# Altium footprint library RHD2000.PCBLIB: 12 footprints
Each footprint in its own frame and in the unit in brackets; x right, y up, seen from the top. Pads: shape width x height; smd on the part's side, far side on the other; paste and mask are expansions set on the pad; w line width, h text height; cw(c..) or ccw(c..) is an arc to the next point about the centre after c.
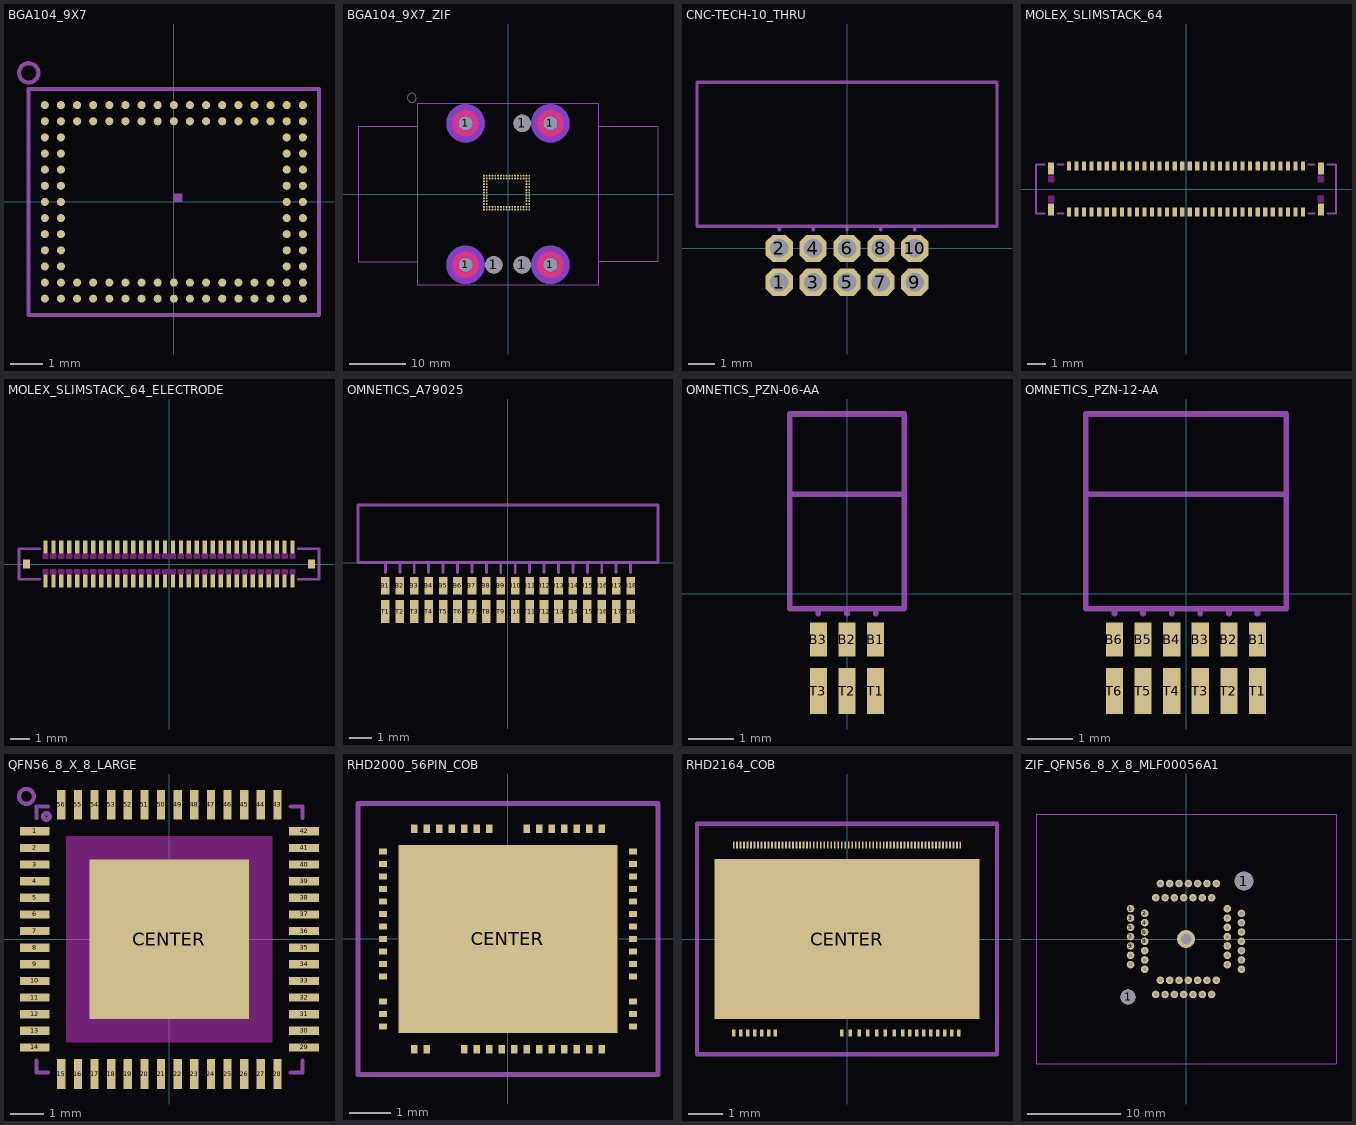
[diagram p0: the footprints below, top view; thin cyan lines are the x and y axes]

## BGA104_9X7 [mm]
pads (104):
  rrect100% 0.25x0.25 smd: A1(-4,3) A2(-3.5,3) A3(-3,3) A4(-2.5,3) A5(-2,3) A6(-1.5,3) A7(-1,3) A8(-0.5,3) A9(0,3) A10(0.5,3) A11(1,3) A12(1.5,3) A13(2,3) A14(2.5,3) A15(3,3) A16(3.5,3) A17(4,3) B1(-4,2.5) B2(-3.5,2.5) B3(-3,2.5) B4(-2.5,2.5) B5(-2,2.5) B6(-1.5,2.5) B7(-1,2.5) B8(-0.5,2.5) B9(0,2.5) B10(0.5,2.5) B11(1,2.5) B12(1.5,2.5) B13(2,2.5) B14(2.5,2.5) B15(3,2.5) B16(3.5,2.5) B17(4,2.5) C1(-4,2) C2(-3.5,2) C16(3.5,2) C17(4,2) D1(-4,1.5) D2(-3.5,1.5) D16(3.5,1.5) D17(4,1.5) E1(-4,1) E2(-3.5,1) E16(3.5,1) E17(4,1) F1(-4,0.5) F2(-3.5,0.5) F16(3.5,0.5) F17(4,0.5) G1(-4,0) G2(-3.5,0) G16(3.5,0) G17(4,0) H1(-4,-0.5) H2(-3.5,-0.5) H16(3.5,-0.5) H17(4,-0.5) J1(-4,-1) J2(-3.5,-1) J16(3.5,-1) J17(4,-1) K1(-4,-1.5) K2(-3.5,-1.5) K16(3.5,-1.5) K17(4,-1.5) L1(-4,-2) L2(-3.5,-2) L16(3.5,-2) L17(4,-2) M1(-4,-2.5) M2(-3.5,-2.5) M3(-3,-2.5) M4(-2.5,-2.5) M5(-2,-2.5) M6(-1.5,-2.5) M7(-1,-2.5) M8(-0.5,-2.5) M9(0,-2.5) M10(0.5,-2.5) M11(1,-2.5) M12(1.5,-2.5) M13(2,-2.5) M14(2.5,-2.5) M15(3,-2.5) M16(3.5,-2.5) M17(4,-2.5) N1(-4,-3) N2(-3.5,-3) N3(-3,-3) N4(-2.5,-3) N5(-2,-3) N6(-1.5,-3) N7(-1,-3) N8(-0.5,-3) N9(0,-3) N10(0.5,-3) N11(1,-3) N12(1.5,-3) N13(2,-3) N14(2.5,-3) N15(3,-3) N16(3.5,-3) N17(4,-3)
Mechanical 22:
  circle w0.127: c-4.5,4 r0.3
  region: 0,0 0.254,0 0.254,0.254 0,0.254
  lines w0.127: -4.5,-3.5 4.5,-3.5 4.5,3.5 -4.5,3.5 -4.5,-3.5

## BGA104_9X7_ZIF [mil]
pads (111):
  round 93.74 hole 93.74 unplated: 1(-295.28,-492.13) 1(-295.28,492.13) 1(295.28,-492.13) 1(295.28,492.13)
  round 120 hole 120 unplated: 1(-98.43,-492.13) 1(98.43,-492.13) 1(98.43,492.13)
  rrect100% 13.39x13.39 smd: A1(-167.32,127.95) A2(-147.64,127.95) A3(-127.95,127.95) A4(-108.27,127.95) A5(-88.58,127.95) A6(-68.9,127.95) A7(-49.21,127.95) A8(-29.53,127.95) A9(-9.84,127.95) A10(9.84,127.95) A11(29.53,127.95) A12(49.21,127.95) A13(68.9,127.95) A14(88.58,127.95) A15(108.27,127.95) A16(127.95,127.95) A17(147.64,127.95) B1(-167.32,108.27) B2(-147.64,108.27) B3(-127.95,108.27) B4(-108.27,108.27) B5(-88.58,108.27) B6(-68.9,108.27) B7(-49.21,108.27) B8(-29.53,108.27) B9(-9.84,108.27) B10(9.84,108.27) B11(29.53,108.27) B12(49.21,108.27) B13(68.9,108.27) B14(88.58,108.27) B15(108.27,108.27) B16(127.95,108.27) B17(147.64,108.27) C1(-167.32,88.58) C2(-147.64,88.58) C16(127.95,88.58) C17(147.64,88.58) D1(-167.32,68.9) D2(-147.64,68.9) D16(127.95,68.9) D17(147.64,68.9) E1(-167.32,49.21) E2(-147.64,49.21) E16(127.95,49.21) E17(147.64,49.21) F1(-167.32,29.53) F2(-147.64,29.53) F16(127.95,29.53) F17(147.64,29.53) G1(-167.32,9.84) G2(-147.64,9.84) G16(127.95,9.84) G17(147.64,9.84) H1(-167.32,-9.84) H2(-147.64,-9.84) H16(127.95,-9.84) H17(147.64,-9.84) J1(-167.32,-29.53) J2(-147.64,-29.53) J16(127.95,-29.53) J17(147.64,-29.53) K1(-167.32,-49.21) K2(-147.64,-49.21) K16(127.95,-49.21) K17(147.64,-49.21) L1(-167.32,-68.9) L2(-147.64,-68.9) L16(127.95,-68.9) L17(147.64,-68.9) M1(-167.32,-88.58) M2(-147.64,-88.58) M3(-127.95,-88.58) M4(-108.27,-88.58) M5(-88.58,-88.58) M6(-68.9,-88.58) M7(-49.21,-88.58) M8(-29.53,-88.58) M9(-9.84,-88.58) M10(9.84,-88.58) M11(29.53,-88.58) M12(49.21,-88.58) M13(68.9,-88.58) M14(88.58,-88.58) M15(108.27,-88.58) M16(127.95,-88.58) M17(147.64,-88.58) N1(-167.32,-108.27) N2(-147.64,-108.27) N3(-127.95,-108.27) N4(-108.27,-108.27) N5(-88.58,-108.27) N6(-68.9,-108.27) N7(-49.21,-108.27) N8(-29.53,-108.27) N9(-9.84,-108.27) N10(9.84,-108.27) N11(29.53,-108.27) N12(49.21,-108.27) N13(68.9,-108.27) N14(88.58,-108.27) N15(108.27,-108.27) N16(127.95,-108.27) N17(147.64,-108.27)
Top Layer:
  circle w39.37: c295.28,492.13 r72.64
  circle w39.37: c-295.28,492.13 r72.64
  circle w39.37: c295.28,-492.13 r72.64
  circle w39.37: c-295.28,-492.13 r72.64
Top Layer keep-out:
  circle w94.49: c295.28,492.13 r86.61
  circle w94.49: c-295.28,492.13 r86.61
  circle w94.49: c295.28,-492.13 r86.61
  circle w94.49: c-295.28,-492.13 r86.61
Bottom Layer keep-out:
  circle w94.49: c295.28,492.13 r86.61
  circle w94.49: c-295.28,492.13 r86.61
  circle w94.49: c295.28,-492.13 r86.61
  circle w94.49: c-295.28,-492.13 r86.61
Top Solder:
  region: 0,0 10,0 10,10 0,10
Mechanical 22:
  circle w5: c-669.29,669.29 r31.12
  lines w5: -629.92,-472.44 -629.92,472.44 ; -629.92,-472.44 -629.92,-629.92 629.92,-629.92 629.92,-472.44 ; -629.92,-472.44 -1043.31,-472.44 -1043.31,472.44 -629.92,472.44 ; -629.92,472.44 -629.92,629.92 629.92,629.92 629.92,472.44 ; 629.92,-472.44 1043.31,-472.44 1043.31,472.44 629.92,472.44 ; 629.92,-472.44 629.92,472.44

## CNC-TECH-10_THRU [mil]
pads (10):
  oct 40.03x40.03 / inner oct 60x60 / far side oct 40.03x40.03 hole 27.56: 1(-100,-50) 2(-100,0) 3(-50,-50) 4(-50,0) 5(0,-50) 6(0,0) 7(50,-50) 8(50,0) 9(100,-50) 10(100,0)
Mechanical 22:
  lines w5: -100,27.56 -100,32.68 ; -50,27.56 -50,32.68 ; 0,27.56 0,32.68 ; 50,27.56 50,32.68 ; 100,27.56 100,32.68 ; -100,32.68 -221.46,32.68 -221.46,245.28 221.46,245.28 221.46,32.68 100,32.68 ; -100,32.68 -50,32.68 ; -50,32.68 0,32.68 ; 0,32.68 50,32.68 ; 50,32.68 100,32.68

## MOLEX_SLIMSTACK_64 [mm]
pads (68):
  rect 0.22x0.475 smd: 1(-6.2,-1.213) 2(-5.8,-1.213) 3(-5.4,-1.213) 4(-5,-1.213) 5(-4.6,-1.213) 6(-4.2,-1.213) 7(-3.8,-1.213) 8(-3.4,-1.213) 9(-3,-1.213) 10(-2.6,-1.213) 11(-2.2,-1.213) 12(-1.8,-1.213) 13(-1.4,-1.213) 14(-1,-1.213) 15(-0.6,-1.213) 16(-0.2,-1.213) 17(0.2,-1.213) 18(0.6,-1.213) 19(1,-1.213) 20(1.4,-1.213) 21(1.8,-1.213) 22(2.2,-1.213) 23(2.6,-1.213) 24(3,-1.213) 25(3.4,-1.213) 26(3.8,-1.213) 27(4.2,-1.213) 28(4.6,-1.213) 29(5,-1.213) 30(5.4,-1.213) 31(5.8,-1.213) 32(6.2,-1.213) 33(6.2,1.213) 34(5.8,1.213) 35(5.4,1.213) 36(5,1.213) 37(4.6,1.213) 38(4.2,1.213) 39(3.8,1.213) 40(3.4,1.213) 41(3,1.213) 42(2.6,1.213) 43(2.2,1.213) 44(1.8,1.213) 45(1.4,1.213) 46(1,1.213) 47(0.6,1.213) 48(0.2,1.213) 49(-0.2,1.213) 50(-0.6,1.213) 51(-1,1.213) 52(-1.4,1.213) 53(-1.8,1.213) 54(-2.2,1.213) 55(-2.6,1.213) 56(-3,1.213) 57(-3.4,1.213) 58(-3.8,1.213) 59(-4.2,1.213) 60(-4.6,1.213) 61(-5,1.213) 62(-5.4,1.213) 63(-5.8,1.213) 64(-6.2,1.213)
  rect 0.32x0.65 smd: MECH1(-7.15,1.085) MECH2(-7.15,-1.085) MECH3(7.15,1.085) MECH4(7.15,-1.085)
Top Layer keep-out:
  region: -7.31,0.35 -7.31,0.7 -6.99,0.7 -6.99,0.35
  region: -7.31,-0.7 -7.31,-0.35 -6.99,-0.35 -6.99,-0.7
  region: 6.99,0.35 6.99,0.7 7.31,0.7 7.31,0.35
  region: 6.99,-0.7 6.99,-0.35 7.31,-0.35 7.31,-0.7
Mechanical 22:
  lines w0.127: -7.5,-1.3 -7.95,-1.3 -7.95,1.3 -7.5,1.3 ; -6.8,-1.3 -6.5,-1.3 ; -6.8,1.3 -6.5,1.3 ; 6.5,-1.3 6.8,-1.3 ; 6.5,1.3 6.8,1.3 ; 7.5,-1.3 7.95,-1.3 7.95,1.3 7.5,1.3

## MOLEX_SLIMSTACK_64_ELECTRODE [mm]
pads (66):
  rect 0.22x0.66 smd: 1(-6.2,0.855) 2(-5.8,0.855) 3(-5.4,0.855) 4(-5,0.855) 5(-4.6,0.855) 6(-4.2,0.855) 7(-3.8,0.855) 8(-3.4,0.855) 9(-3,0.855) 10(-2.6,0.855) 11(-2.2,0.855) 12(-1.8,0.855) 13(-1.4,0.855) 14(-1,0.855) 15(-0.6,0.855) 16(-0.2,0.855) 17(0.2,0.855) 18(0.6,0.855) 19(1,0.855) 20(1.4,0.855) 21(1.8,0.855) 22(2.2,0.855) 23(2.6,0.855) 24(3,0.855) 25(3.4,0.855) 26(3.8,0.855) 27(4.2,0.855) 28(4.6,0.855) 29(5,0.855) 30(5.4,0.855) 31(5.8,0.855) 32(6.2,0.855) 33(6.2,-0.855) 34(5.8,-0.855) 35(5.4,-0.855) 36(5,-0.855) 37(4.6,-0.855) 38(4.2,-0.855) 39(3.8,-0.855) 40(3.4,-0.855) 41(3,-0.855) 42(2.6,-0.855) 43(2.2,-0.855) 44(1.8,-0.855) 45(1.4,-0.855) 46(1,-0.855) 47(0.6,-0.855) 48(0.2,-0.855) 49(-0.2,-0.855) 50(-0.6,-0.855) 51(-1,-0.855) 52(-1.4,-0.855) 53(-1.8,-0.855) 54(-2.2,-0.855) 55(-2.6,-0.855) 56(-3,-0.855) 57(-3.4,-0.855) 58(-3.8,-0.855) 59(-4.2,-0.855) 60(-4.6,-0.855) 61(-5,-0.855) 62(-5.4,-0.855) 63(-5.8,-0.855) 64(-6.2,-0.855)
  rect 0.35x0.44 smd: MECH1(-7.15,0) MECH2(7.15,0)
Top Layer keep-out:
  region: -6.35,0.255 -6.35,0.525 -6.05,0.525 -6.05,0.255
  region: -5.95,0.255 -5.95,0.525 -5.65,0.525 -5.65,0.255
  region: -5.55,0.255 -5.55,0.525 -5.25,0.525 -5.25,0.255
  region: -5.15,0.255 -5.15,0.525 -4.85,0.525 -4.85,0.255
  region: -4.75,0.255 -4.75,0.525 -4.45,0.525 -4.45,0.255
  region: -4.35,0.255 -4.35,0.525 -4.05,0.525 -4.05,0.255
  region: -3.95,0.255 -3.95,0.525 -3.65,0.525 -3.65,0.255
  region: -3.55,0.255 -3.55,0.525 -3.25,0.525 -3.25,0.255
  region: -3.15,0.255 -3.15,0.525 -2.85,0.525 -2.85,0.255
  region: -2.75,0.255 -2.75,0.525 -2.45,0.525 -2.45,0.255
  region: -2.35,0.255 -2.35,0.525 -2.05,0.525 -2.05,0.255
  region: -1.95,0.255 -1.95,0.525 -1.65,0.525 -1.65,0.255
  region: -1.55,0.255 -1.55,0.525 -1.25,0.525 -1.25,0.255
  region: -1.15,0.255 -1.15,0.525 -0.85,0.525 -0.85,0.255
  region: -0.75,0.255 -0.75,0.525 -0.45,0.525 -0.45,0.255
  region: -0.35,0.255 -0.35,0.525 -0.05,0.525 -0.05,0.255
  region: 0.05,0.255 0.05,0.525 0.35,0.525 0.35,0.255
  region: 0.45,0.255 0.45,0.525 0.75,0.525 0.75,0.255
  region: 0.85,0.255 0.85,0.525 1.15,0.525 1.15,0.255
  region: 1.25,0.255 1.25,0.525 1.55,0.525 1.55,0.255
  region: 1.65,0.255 1.65,0.525 1.95,0.525 1.95,0.255
  region: 2.05,0.255 2.05,0.525 2.35,0.525 2.35,0.255
  region: 2.45,0.255 2.45,0.525 2.75,0.525 2.75,0.255
  region: 2.85,0.255 2.85,0.525 3.15,0.525 3.15,0.255
  region: 3.25,0.255 3.25,0.525 3.55,0.525 3.55,0.255
  region: 3.65,0.255 3.65,0.525 3.95,0.525 3.95,0.255
  region: 4.05,0.255 4.05,0.525 4.35,0.525 4.35,0.255
  region: 4.45,0.255 4.45,0.525 4.75,0.525 4.75,0.255
  region: 4.85,0.255 4.85,0.525 5.15,0.525 5.15,0.255
  region: 5.25,0.255 5.25,0.525 5.55,0.525 5.55,0.255
  region: 5.65,0.255 5.65,0.525 5.95,0.525 5.95,0.255
  region: 6.05,0.255 6.05,0.525 6.35,0.525 6.35,0.255
  region: 6.05,-0.525 6.05,-0.255 6.35,-0.255 6.35,-0.525
  region: 5.65,-0.525 5.65,-0.255 5.95,-0.255 5.95,-0.525
  region: 5.25,-0.525 5.25,-0.255 5.55,-0.255 5.55,-0.525
  region: 4.85,-0.525 4.85,-0.255 5.15,-0.255 5.15,-0.525
  region: 4.45,-0.525 4.45,-0.255 4.75,-0.255 4.75,-0.525
  region: 4.05,-0.525 4.05,-0.255 4.35,-0.255 4.35,-0.525
  region: 3.65,-0.525 3.65,-0.255 3.95,-0.255 3.95,-0.525
  region: 3.25,-0.525 3.25,-0.255 3.55,-0.255 3.55,-0.525
  region: 2.85,-0.525 2.85,-0.255 3.15,-0.255 3.15,-0.525
  region: 2.45,-0.525 2.45,-0.255 2.75,-0.255 2.75,-0.525
  region: 2.05,-0.525 2.05,-0.255 2.35,-0.255 2.35,-0.525
  region: 1.65,-0.525 1.65,-0.255 1.95,-0.255 1.95,-0.525
  region: 1.25,-0.525 1.25,-0.255 1.55,-0.255 1.55,-0.525
  region: 0.85,-0.525 0.85,-0.255 1.15,-0.255 1.15,-0.525
  region: 0.45,-0.525 0.45,-0.255 0.75,-0.255 0.75,-0.525
  region: 0.05,-0.525 0.05,-0.255 0.35,-0.255 0.35,-0.525
  region: -0.35,-0.525 -0.35,-0.255 -0.05,-0.255 -0.05,-0.525
  region: -0.75,-0.525 -0.75,-0.255 -0.45,-0.255 -0.45,-0.525
  region: -1.15,-0.525 -1.15,-0.255 -0.85,-0.255 -0.85,-0.525
  region: -1.55,-0.525 -1.55,-0.255 -1.25,-0.255 -1.25,-0.525
  region: -1.95,-0.525 -1.95,-0.255 -1.65,-0.255 -1.65,-0.525
  region: -2.35,-0.525 -2.35,-0.255 -2.05,-0.255 -2.05,-0.525
  region: -2.75,-0.525 -2.75,-0.255 -2.45,-0.255 -2.45,-0.525
  region: -3.15,-0.525 -3.15,-0.255 -2.85,-0.255 -2.85,-0.525
  region: -3.55,-0.525 -3.55,-0.255 -3.25,-0.255 -3.25,-0.525
  region: -3.95,-0.525 -3.95,-0.255 -3.65,-0.255 -3.65,-0.525
  region: -4.35,-0.525 -4.35,-0.255 -4.05,-0.255 -4.05,-0.525
  region: -4.75,-0.525 -4.75,-0.255 -4.45,-0.255 -4.45,-0.525
  region: -5.15,-0.525 -5.15,-0.255 -4.85,-0.255 -4.85,-0.525
  region: -5.55,-0.525 -5.55,-0.255 -5.25,-0.255 -5.25,-0.525
  region: -5.95,-0.525 -5.95,-0.255 -5.65,-0.255 -5.65,-0.525
  region: -6.35,-0.525 -6.35,-0.255 -6.05,-0.255 -6.05,-0.525
Mechanical 22:
  lines w0.127: -6.5,-0.77 -7.53,-0.77 -7.53,0.77 -6.5,0.77 ; 6.5,-0.77 7.53,-0.77 7.53,0.77 6.5,0.77

## OMNETICS_A79025 [mil]
pads (36):
  rect 15x30 smd: B1(-212.5,-40) B2(-187.5,-40) B3(-162.5,-40) B4(-137.5,-40) B5(-112.5,-40) B6(-87.5,-40) B7(-62.5,-40) B8(-37.5,-40) B9(-12.5,-40) B10(12.5,-40) B11(37.5,-40) B12(62.5,-40) B13(87.5,-40) B14(112.5,-40) B15(137.5,-40) B16(162.5,-40) B17(187.5,-40) B18(212.5,-40)
  rect 15x40 smd: T1(-212.5,-85) T2(-187.5,-85) T3(-162.5,-85) T4(-137.5,-85) T5(-112.5,-85) T6(-87.5,-85) T7(-62.5,-85) T8(-37.5,-85) T9(-12.5,-85) T10(12.5,-85) T11(37.5,-85) T12(62.5,-85) T13(87.5,-85) T14(112.5,-85) T15(137.5,-85) T16(162.5,-85) T17(187.5,-85) T18(212.5,-85)
Mechanical 22:
  lines w5: -212.5,-17.5 -212.5,0 ; -187.5,-17.5 -187.5,0 ; -162.5,-17.5 -162.5,0 ; -137.5,-17.5 -137.5,0 ; -112.5,-17.5 -112.5,0 ; -87.5,-17.5 -87.5,0 ; -62.5,-17.5 -62.5,0 ; -37.5,-17.5 -37.5,0 ; -12.5,-17.5 -12.5,0 ; 12.5,-17.5 12.5,0 ; 37.5,-17.5 37.5,0 ; 62.5,-17.5 62.5,0 ; 87.5,-17.5 87.5,0 ; 112.5,-17.5 112.5,0 ; 137.5,-17.5 137.5,0 ; 162.5,-17.5 162.5,0 ; 187.5,-17.5 187.5,0 ; 212.5,-17.5 212.5,0 ; -212.5,0 -187.5,0 ; -212.5,0 -260,0 -260,100 260,100 260,0 12.5,0 ; -187.5,0 -162.5,0 ; -162.5,0 -137.5,0 ; -137.5,0 -112.5,0 ; -112.5,0 -87.5,0 ; -87.5,0 -62.5,0 ; -62.5,0 -37.5,0 ; -37.5,0 -12.5,0 ; -12.5,0 12.5,0

## OMNETICS_PZN-06-AA [mil]
pads (6):
  rect 15x30 smd: B1(25,-40) B2(0,-40) B3(-25,-40)
  rect 15x40 smd: T1(25,-85) T2(0,-85) T3(-25,-85)
Mechanical 22:
  lines w5: -25,-17.5 -25,-13 ; 0,-17.5 0,-13 ; 25,-17.5 25,-13 ; -50,87 -50,-13 -25,-13 ; -50,87 -50,157 50,157 50,87 ; -50,87 50,87 ; -25,-13 0,-13 ; 0,-13 25,-13 ; 25,-13 50,-13 50,87

## OMNETICS_PZN-12-AA [mil]
pads (12):
  rect 15x30 smd: B1(62.5,-40) B2(37.5,-40) B3(12.5,-40) B4(-12.5,-40) B5(-37.5,-40) B6(-62.5,-40)
  rect 15x40 smd: T1(62.5,-85) T2(37.5,-85) T3(12.5,-85) T4(-12.5,-85) T5(-37.5,-85) T6(-62.5,-85)
Mechanical 22:
  lines w5: -62.5,-17.5 -62.5,-13 ; -37.5,-17.5 -37.5,-13 ; -12.5,-17.5 -12.5,-13 ; 12.5,-17.5 12.5,-13 ; 37.5,-17.5 37.5,-13 ; 62.5,-17.5 62.5,-13 ; -87.5,87 -87.5,-13 -62.5,-13 ; -87.5,87 -87.5,157 87.5,157 87.5,87 ; -87.5,87 87.5,87 ; -62.5,-13 -37.5,-13 ; -37.5,-13 -12.5,-13 ; -12.5,-13 12.5,-13 ; 12.5,-13 37.5,-13 ; 37.5,-13 62.5,-13 ; 62.5,-13 87.5,-13 87.5,87

## QFN56_8_X_8_LARGE [mil]
pads (57):
  rect 35.43x9.84 smd: 1(-159.45,127.95) 2(-159.45,108.27) 3(-159.45,88.58) 4(-159.45,68.9) 5(-159.45,49.21) 6(-159.45,29.53) 7(-159.45,9.84) 8(-159.45,-9.84) 9(-159.45,-29.53) 10(-159.45,-49.21) 11(-159.45,-68.9) 12(-159.45,-88.58) 13(-159.45,-108.27) 14(-159.45,-127.95) 29(159.45,-127.95) 30(159.45,-108.27) 31(159.45,-88.58) 32(159.45,-68.9) 33(159.45,-49.21) 34(159.45,-29.53) 35(159.45,-9.84) 36(159.45,9.84) 37(159.45,29.53) 38(159.45,49.21) 39(159.45,68.9) 40(159.45,88.58) 41(159.45,108.27) 42(159.45,127.95)
  rect 9.84x35.43 smd: 15(-127.95,-159.45) 16(-108.27,-159.45) 17(-88.58,-159.45) 18(-68.9,-159.45) 19(-49.21,-159.45) 20(-29.53,-159.45) 21(-9.84,-159.45) 22(9.84,-159.45) 23(29.53,-159.45) 24(49.21,-159.45) 25(68.9,-159.45) 26(88.58,-159.45) 27(108.27,-159.45) 28(127.95,-159.45) 43(127.95,159.45) 44(108.27,159.45) 45(88.58,159.45) 46(68.9,159.45) 47(49.21,159.45) 48(29.53,159.45) 49(9.84,159.45) 50(-9.84,159.45) 51(-29.53,159.45) 52(-49.21,159.45) 53(-68.9,159.45) 54(-88.58,159.45) 55(-108.27,159.45) 56(-127.95,159.45)
  rect 188.98x188.98 smd: CENTER(0,0)
Top Layer keep-out:
  region: -122.05,-122.05 -122.05,122.05 122.05,122.05 122.05,-122.05
Mechanical 22:
  circle w5: c-145.67,145.67 r3.94
  circle w5: c-169.29,169.29 r8.8
  lines w5: -157.48,-143.7 -157.48,-157.48 -143.7,-157.48 ; -157.48,143.7 -157.48,157.48 -143.7,157.48 ; 143.7,-157.48 157.48,-157.48 157.48,-143.7 ; 143.7,157.48 157.48,157.48 157.48,143.7

## RHD2000_56PIN_COB [mil]
pads (57):
  rect 8x6 smd paste+0: 1(-120,84) 2(-120,72) 3(-120,60) 4(-120,48) 5(-120,36) 6(-120,24) 7(-120,12) 8(-120,0) 9(-120,-12) 10(-120,-24) 11(-120,-36) 12(-120,-60) 13(-120,-72) 14(-120,-84) 29(120,-84) 30(120,-72) 31(120,-60) 32(120,-36) 33(120,-24) 34(120,-12) 35(120,0) 36(120,12) 37(120,24) 38(120,36) 39(120,48) 40(120,60) 41(120,72) 42(120,84)
  rect 6x8 smd paste+0: 15(-90,-106) 16(-78,-106) 17(-42,-106) 18(-30,-106) 19(-18,-106) 20(-6,-106) 21(6,-106) 22(18,-106) 23(30,-106) 24(42,-106) 25(54,-106) 26(66,-106) 27(78,-106) 28(90,-106) 43(90,106) 44(78,106) 45(66,106) 46(54,106) 47(42,106) 48(30,106) 49(18,106) 50(-18,106) 51(-30,106) 52(-42,106) 53(-54,106) 54(-66,106) 55(-78,106) 56(-90,106)
  rect 210x180 smd paste+0: CENTER(0,0)
Mechanical 22:
  lines w5: -144,-130 -144,130 144,130 144,-130 -144,-130

## RHD2164_COB [mil]
pads (90):
  rect 2x8 smd paste+0: 0(-126,108) 1(-122,108) 2(-118,108) 3(-114,108) 4(-110,108) 5(-106,108) 6(-102,108) 7(-98,108) 8(-94,108) 9(-90,108) 10(-86,108) 11(-82,108) 12(-78,108) 13(-74,108) 14(-70,108) 15(-66,108) 16(-62,108) 17(-58,108) 18(-54,108) 19(-50,108) 20(-46,108) 21(-42,108) 22(-38,108) 23(-34,108) 24(-30,108) 25(-26,108) 26(-22,108) 27(-18,108) 28(-14,108) 29(-10,108) 30(-6,108) 31(-2,108) 32(2,108) 33(6,108) 34(10,108) 35(14,108) 36(18,108) 37(22,108) 38(26,108) 39(30,108) 40(34,108) 41(38,108) 42(42,108) 43(46,108) 44(50,108) 45(54,108) 46(58,108) 47(62,108) 48(66,108) 49(70,108) 50(74,108) 51(78,108) 52(82,108) 53(86,108) 54(90,108) 55(94,108) 56(98,108) 57(102,108) 58(106,108) 59(110,108) 60(114,108) 61(118,108) 62(122,108) 63(126,108) A(-130,108) B(130,108)
  rect 4x8 smd paste+0: B1(-130,-108) B2(-122,-108) B3(-114,-108) B4(-106,-108) B5(-98,-108) B6(-90,-108) B7(-82,-108) B8(-6,-108) B9(4,-108) B10(14,-108) B11(24,-108) B12(34,-108) B13(44,-108) B14(54,-108) B15(64,-108) B16(72,-108) B17(80,-108) B18(88,-108) B19(96,-108) B20(104,-108) B21(112,-108) B22(120,-108) B23(128,-108)
  rect 304x184 smd paste+0: CENTER(0,0)
Mechanical 22:
  lines w5: -172,-132 -172,132 172,132 172,-132 -172,-132

## ZIF_QFN56_8_X_8_MLF00056A1 [mil]
pads (59):
  round 62.99 hole 62.99 unplated: 1(-245.08,-245.08)
  round 32 / inner round 60 / far side round 32 hole 16.14: 1(-234.45,127.95) 2(-174.41,108.27) 3(-234.45,88.58) 4(-174.41,68.9) 5(-234.45,49.21) 6(-174.41,29.53) 7(-234.45,9.84) 8(-174.41,-9.84) 9(-234.45,-29.53) 10(-174.41,-49.21) 11(-234.45,-68.9) 12(-174.41,-88.58) 13(-234.45,-108.27) 14(-174.41,-127.95) 15(-127.95,-234.45) 16(-108.27,-174.41) 17(-88.58,-234.45) 18(-68.9,-174.41) 19(-49.21,-234.45) 20(-29.53,-174.41) 21(-9.84,-234.45) 22(9.84,-174.41) 23(29.53,-234.45) 24(49.21,-174.41) 25(68.9,-234.45) 26(88.58,-174.41) 27(108.27,-234.45) 28(127.95,-174.41) 29(234.45,-127.95) 30(174.41,-108.27) 31(234.45,-88.58) 32(174.41,-68.9) 33(234.45,-49.21) 34(174.41,-29.53) 35(234.45,-9.84) 36(174.41,9.84) 37(234.45,29.53) 38(174.41,49.21) 39(234.45,68.9) 40(174.41,88.58) 41(234.45,108.27) 42(174.41,127.95) 43(127.95,234.45) 44(108.27,174.41) 45(88.58,234.45) 46(68.9,174.41) 47(49.21,234.45) 48(29.53,174.41) 49(9.84,234.45) 50(-9.84,174.41) 51(-29.53,234.45) 52(-49.21,174.41) 53(-68.9,234.45) 54(-88.58,174.41) 55(-108.27,234.45) 56(-127.95,174.41)
  round 78.74 hole 78.74 unplated: 1(245.08,245.08)
  round 76 / inner round 60 / far side round 76 hole 47.24: CENTER(0,0)
Mechanical 22:
  lines w5: -633.86,-527.56 633.86,-527.56 633.86,527.56 -633.86,527.56 -633.86,-527.56